# Altium schematic symbol library Q_2PNP_RN2607.SchLib: 1 symbol
Pins are listed as number, name and electrical type; pins without a type are passive.

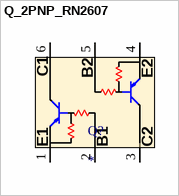
[diagram p0: symbol Q_2PNP_RN2607]

## Q_2PNP_RN2607
designator Q?
pins: 1 E1 "Switching", 2 B1 "Switching", 3 C2 "Switching", 4 E2 "Switching", 5 B2 "Switching", 6 C1 "Switching"